# EAGLE library part USB-C-24P-SMD-FLAT-SIDE (library USB Connector)
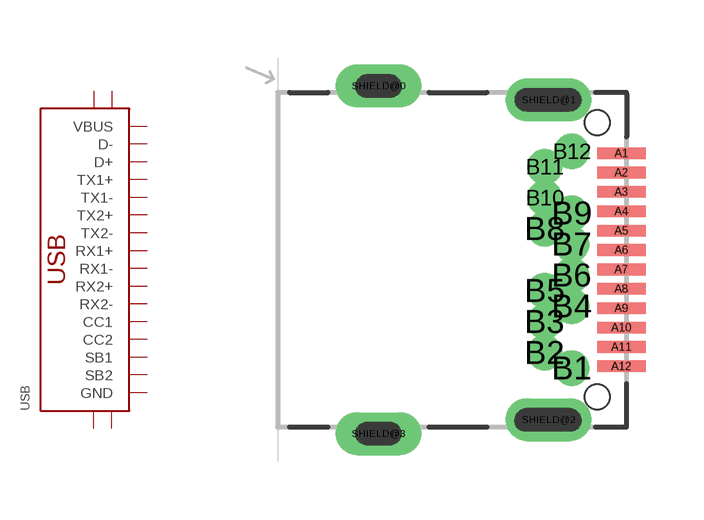
[diagram p11: symbol with the pads of USB-C-24P-SMD-FLAT-SIDE; footprint USB-C-24P-SMD-FLAT-SIDE]

Designator prefix USB

## USB-C-24P-SMD-FLAT-SIDE  [USB-C-24P-SMD-FLAT-SIDE]
A1  GND
A2  TX1+
A3  TX1-
A4  VBUS
A5  CC1
A6  D+
A7  D-
A8  SB1
A9  VBUS
A10  RX2-
A11  RX2+
A12  GND
B1  GND
B2  TX2+
B3  TX2-
B4  VBUS
B5  CC2
B6  D+
B7  D-
B8  SB2
B9  VBUS
B10  RX1-
B11  RX1+
B12  GND
SHIELD@0  SHIELD
SHIELD@1  SHIELD
SHIELD@2  SHIELD
SHIELD@3  SHIELD

## Footprint USB-C-24P-SMD-FLAT-SIDE (pad centres in mm)
smd 1.25 x 0.3: A1 6.265,2.75; A2 6.265,2.25; A3 6.265,1.75; A4 6.265,1.25; A5 6.265,0.75; A6 6.265,0.25; A7 6.265,-0.25; A8 6.265,-0.75; A9 6.265,-1.25; A10 6.265,-1.75; A11 6.265,-2.25; A12 6.265,-2.75
drill 0.4 pad 0.65: B1 4.99,-2.8; B2 4.29,-2.4; B3 4.29,-1.6; B4 4.99,-1.2; B5 4.29,-0.8; B6 4.99,-0.4; B7 4.99,0.4; B8 4.29,0.8; B9 4.99,1.2; B10 4.29,1.6; B11 4.29,2.4; B12 4.99,2.8
drill 0.6 pad 1 long: SHIELD@0 0,4.49; SHIELD@1 4.39,4.13; SHIELD@2 4.39,-4.13; SHIELD@3 0,-4.49
hole 0.65 at 5.64,3.54
hole 0.65 at 5.64,-3.54